# Altium footprint library SRP1265A-3R3M.PcbLib: 1 footprints
Each footprint in its own frame and in the unit in brackets; x right, y up, seen from the top. Pads: shape width x height; smd on the part's side, far side on the other; paste and mask are expansions set on the pad; w line width, h text height; cw(c..) or ccw(c..) is an arc to the next point about the centre after c.
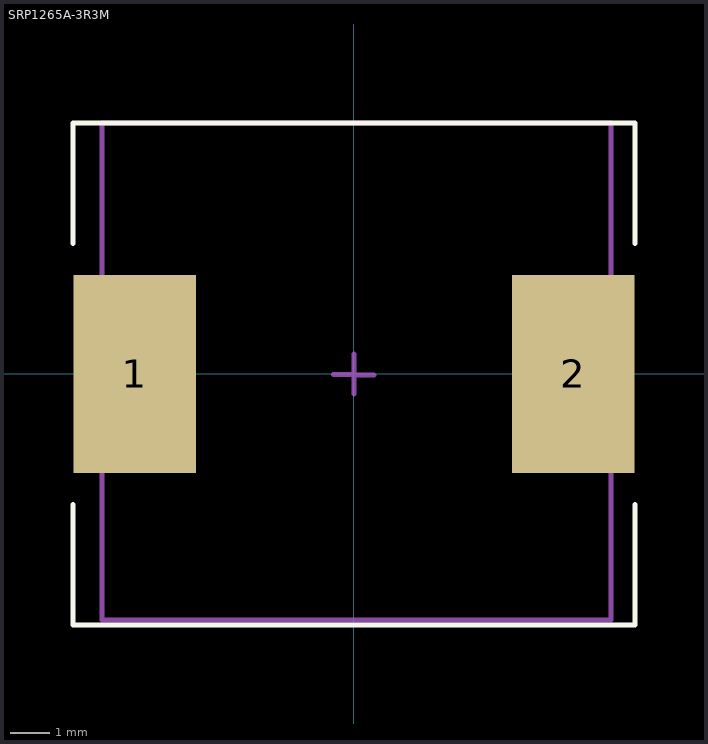
[diagram p0: the footprint, top view; thin cyan lines are the x and y axes]

## SRP1265A-3R3M [mm]
pads (2):
  rect 3.1x5 smd mask+0.1: 1(-5.55,0) 2(5.55,0)
Top Overlay:
  lines w0.127: -7.112,-3.302 -7.112,-6.35 7.112,-6.35 7.112,-3.302 ; -7.112,3.302 -7.112,6.35 7.112,6.35 7.112,3.302
Mechanical 13:
  lines w0.127: -6.375,-6.223 6.502,-6.223 6.502,6.35 -6.375,6.35 -6.375,-6.223
Mechanical 15:
  lines w0.127: -0.524,-0.009 -0.016,-0.009 ; 0,-0.508 0,0 0,0.508 ; 0.001,-0.023 0.509,-0.023
3D body "SRP1265A series.stp": height 6.51, standoff 0.2, extent -6.397,-6.202 6.503,6.298